# Altium footprint library CustomFootprintLib.PcbLib: 6 footprints
Each footprint in its own frame and in the unit in brackets; x right, y up, seen from the top. Pads: shape width x height; smd on the part's side, far side on the other; paste and mask are expansions set on the pad; w line width, h text height; cw(c..) or ccw(c..) is an arc to the next point about the centre after c.
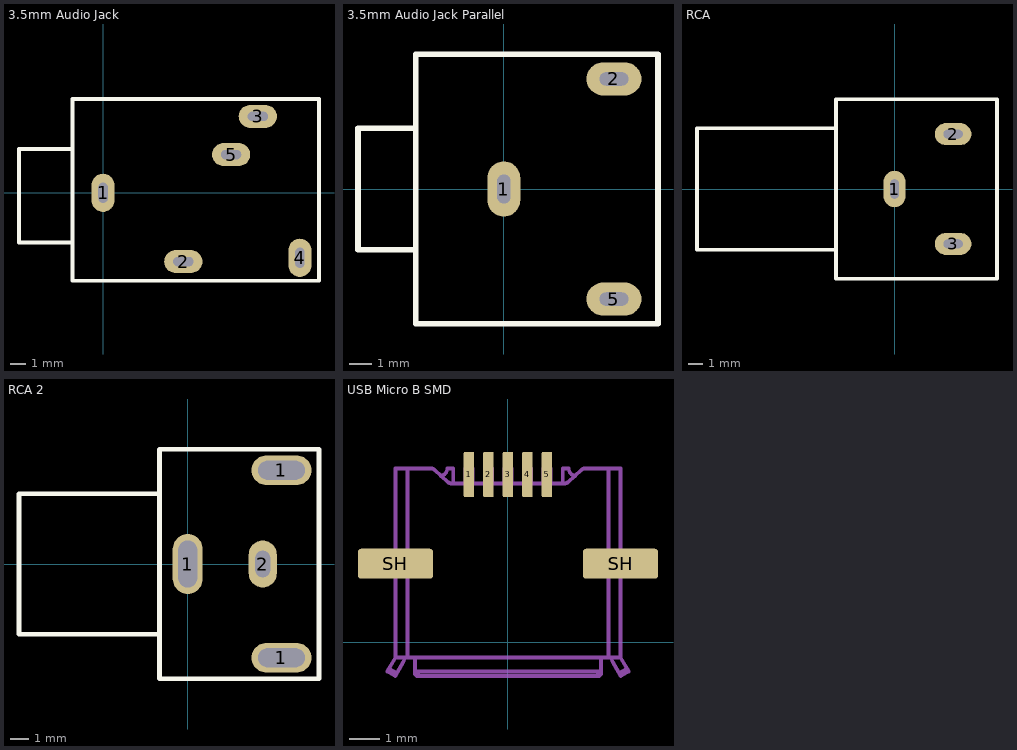
[diagram p0: the footprints below, top view; thin cyan lines are the x and y axes]

## 3.5mm Audio Jack [mm] "3.5mm Audio Jack, 5 pin"
pads (5):
  oval 1.5x2.5 hole 0.6 slot 1.31 at 90 deg: 1(0,0) 4(12.875,-4.25)
  oval 2.5x1.5 hole 0.6 slot 1.31 at 0 deg: 2(5.25,-4.5) 3(10.125,5) 5(8.375,2.5)
Top Overlay:
  lines w0.254: -2,-3.25 -5.5,-3.25 -5.5,2.875 -2,2.875 ; -2,-5.75 -2,6.125 14.125,6.125 14.125,-5.75 -2,-5.75

## 3.5mm Audio Jack Parallel [mm] "3.5mm Audio Jack, 3 pin"
pads (3):
  oval 1.5x2.5 hole 0.6 slot 1.31 at 90 deg: 1(0,0)
  oval 2.5x1.5 hole 0.6 slot 1.31 at 0 deg: 2(5,5) 5(5,-5)
Top Overlay:
  lines w0.254: -4,-2.75 -6.625,-2.75 -6.625,2.75 -4,2.75 ; -4,-6.125 7,-6.125 7,6.125 -4,6.125 -4,-6.125

## Micro Usb [mm]

## RCA [mm] "RCA, 3 pin"
pads (3):
  oval 1.5x2.5 hole 0.6 slot 1.31 at 90 deg: 1(0,0)
  oval 2.5x1.5 hole 0.6 slot 1.31 at 0 deg: 2(4,3.75) 3(4,-3.75)
Top Overlay:
  lines w0.254: -4,-4.15 -13.5,-4.15 -13.5,4.15 -4,4.15 ; -4,-6.125 -4,6.125 7,6.125 7,-6.125 -4,-6.125

## RCA 2 [mm] "3.5mm Audio Jack, 3 pin"
pads (4):
  oval 1.6x3.2 hole 1 slot 2.5 at 90 deg: 1(0,0)
  oval 3.2x1.6 hole 1 slot 2.5 at 0 deg: 1(5,-5) 1(5,5)
  oval 1.5x2.5 hole 0.8 slot 1.4 at 90 deg: 2(4,0)
Top Overlay:
  lines w0.254: -1.5,-3.75 -9,-3.75 -9,3.75 -1.5,3.75 ; -1.5,-6.125 -1.5,6.125 7,6.125 7,-6.125 -1.5,-6.125

## USB Micro B SMD [mm]
height 2.286
pads (7):
  rrect20% 0.35x1.5 smd: 1(-1.3,5.6) 2(-0.65,5.6) 3(0,5.6) 4(0.65,5.6) 5(1.3,5.6)
  rrect20% 2.5x1 smd: SH(-3.75,2.625) SH(3.75,2.625)
Mechanical 13:
  lines w0.127: -3.97,-0.881 -3.71,-1.031 ; -3.45,-0.5 cw(c-3.75,-0.501) -3.49,-0.651 -3.76,-1.118 -4.02,-0.968 -3.75,-0.5 ; -3.35,-0.5 -3.35,5.8 ; -3.1,-0.881 ccw(c-3.006,-0.874) -3,-0.968 ; -2.526,5.793 -2.526,5.8 ; -2.229,5.553 ccw(c-2.275,5.8) -2.024,5.8 -1.825,5.8 -1.825,5.3 ; -1.425,5.3 -1.425,5.8 -1.175,5.8 -1.175,5.3 ; -0.775,5.3 -0.775,5.8 -0.525,5.8 -0.525,5.3 ; -0.125,5.3 -0.125,5.8 0.125,5.8 0.125,5.3 ; 0.525,5.3 0.525,5.8 0.775,5.8 0.775,5.3 ; 1.175,5.3 1.175,5.8 1.425,5.8 1.425,5.3 ; 1.825,5.3 1.825,5.8 2.024,5.8 ccw(c2.275,5.8) 2.229,5.553 ; 2.526,5.793 2.526,5.8 ; 3.1,-0.881 cw(c3.006,-0.874) 3,-0.968 ; 3.35,-0.5 3.35,5.8 ; 3.45,-0.5 ccw(c3.75,-0.501) 3.49,-0.651 3.76,-1.118 4.02,-0.968 3.75,-0.5 ; 3.71,-1.031 3.97,-0.881 ; -3.75,-0.5 -3.1,-0.5 ; -3.75,-0.5 -3.75,5.8 -2.577,5.8 cw(c-2.577,5.6) -2.443,5.748 -2.007,5.352 ccw(c-1.873,5.5) -1.873,5.3 1.873,5.3 ccw(c1.873,5.5) 2.007,5.352 2.443,5.748 cw(c2.577,5.6) 2.577,5.8 3.75,5.8 3.75,-0.5 ; -3.1,-0.5 -3.1,-1.031 ccw(c-3.006,-1.024) -3,-1.118 ; -3.1,-0.5 3.1,-0.501 ; -3,-1.118 -3,-0.968 ; -3,-1.118 3,-1.118 ; -3,-0.968 3,-0.968 ; 3,-1.118 ccw(c3.006,-1.024) 3.1,-1.031 3.1,-0.5 ; 3,-1.118 3,-0.968 ; 3.1,-0.5 3.75,-0.5